# EAGLE library part LED-5050_SEPARATE (library Namenlos)
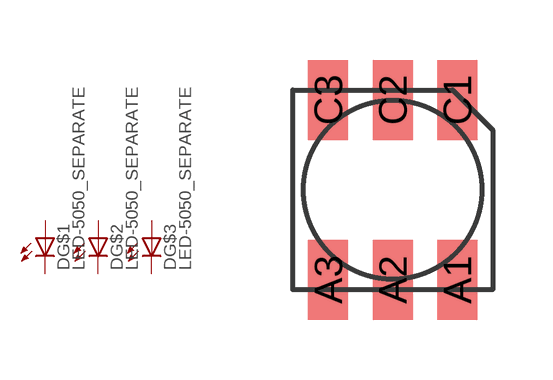
[diagram p7: symbol with the pads of LED5050; footprint LED5050]

Designator prefix D; gates G$1=LED1206 G$2=LED1206 G$3=LED1206

## LED-5050_SEPARATEL  [LED5050]
A1  G$1:A  pas
A2  G$2:A  pas
A3  G$3:A  pas
C1  G$1:C  pas
C2  G$2:C  pas
C3  G$3:C  pas

## Footprint LED5050 (pad centres in mm)
smd 1 x 2: A1 1.616,-2.25; A2 0,-2.25; A3 -1.616,-2.25; C1 1.616,2.25; C2 0,2.25; C3 -1.616,2.25